# EAGLE library part NEXPERIA-74LVC1G98-MUX-INV-OUTPUT (library EagleLibrary)
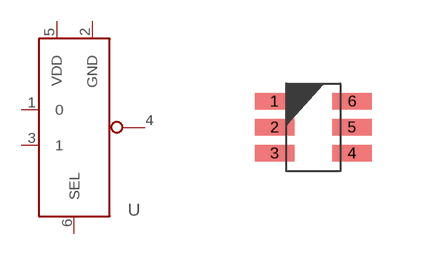
[diagram p54: symbol with the pads of NEXPERIA-SOT363; footprint NEXPERIA-SOT363]

Designator prefix U

## NEXPERIA-74LVC1G98-MUX-INV-OUTPUT (MFG: Nexperia)  [NEXPERIA-SOT363]
1  0
2  GND
3  1
4  OUT
5  VDD
6  SEL

## Footprint NEXPERIA-SOT363 (pad centres in mm)
6-SOT23, 0.65 mm pitch, 2.10 mm span, 2.00 X 1.25 X 1.10 mm body 6-pin SOT23 package with 0.65 mm pitch, 2.10 mm span with body size 2.00 X 1.25 X 1.10 mm
smd 0.988 x 0.41: 1 -0.97,0.65; 2 -0.97,0; 3 -0.97,-0.65; 4 0.97,-0.65; 5 0.97,0; 6 0.97,0.65